# Altium footprint library FLATPACK-10 + MSOP-8.PcbLib: 1 footprints
Each footprint in its own frame and in the unit in brackets; x right, y up, seen from the top. Pads: shape width x height; smd on the part's side, far side on the other; paste and mask are expansions set on the pad; w line width, h text height; cw(c..) or ccw(c..) is an arc to the next point about the centre after c.
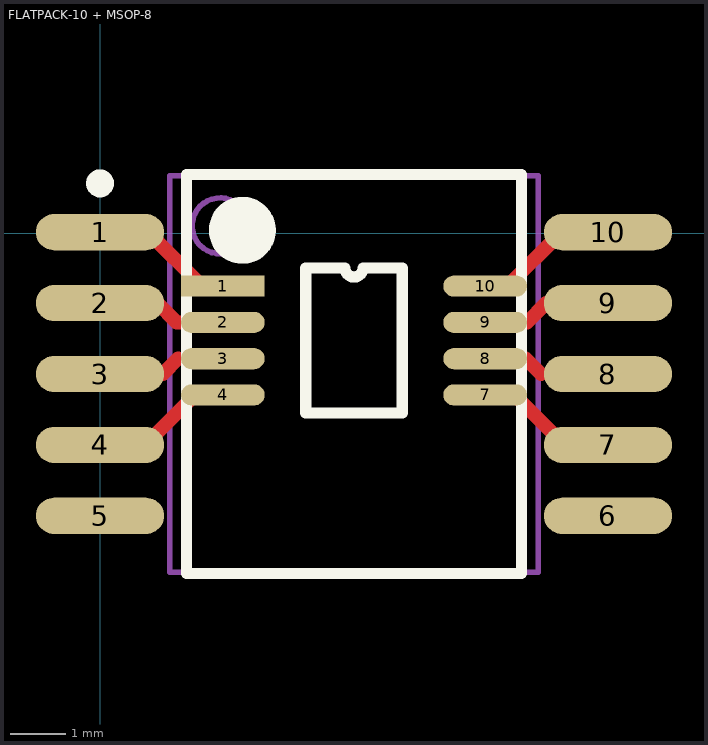
[diagram p0: the footprint, top view; thin cyan lines are the x and y axes]

## FLATPACK-10 + MSOP-8 [mm]
pads (18):
  oval 2.3x0.65 smd: 1(0,0.015) 2(0,-1.255) 3(0,-2.525) 4(0,-3.795) 5(0,-5.065) 6(9.1,-5.065) 7(9.1,-3.795) 8(9.1,-2.525) 9(9.1,-1.255) 10(9.1,0.015)
  rect 1.5x0.38 smd: 1(2.2,-0.95)
  oval 1.5x0.38 smd: 2(2.2,-1.6) 3(2.2,-2.25) 4(2.2,-2.9) 7(6.9,-2.9) 8(6.9,-2.25) 9(6.9,-1.6) 10(6.9,-0.95)
Top Layer:
  lines w0.254: 0,-3.795 0.805,-3.795 1.7,-2.9 ; 0,-2.525 1.125,-2.525 1.4,-2.25 ; 0,0.015 0.61,0.015 ; 0.86,0.015 1.825,-0.95 2.2,-0.95 ; 1.03,-1.255 1.375,-1.6 2.2,-1.6 ; 6.9,-2.25 7.625,-2.25 7.9,-2.525 ; 6.9,-1.6 7.65,-1.6 7.995,-1.255 ; 6.9,-0.95 7.3,-0.95 8.265,0.015 ; 7.425,-2.9 8.32,-3.795 9.1,-3.795
Top Overlay:
  circle w0.6: c2.55,0.05 r0.3
  circle w0.25: c0,0.89 r0.125
  lines w0.2: 1.55,-6.1 1.55,1.05 7.55,1.05 7.55,-6.1 1.55,-6.1 ; 3.685,-3.225 3.685,-0.625 4.388,-0.625 ccw(c4.55,-0.625) 4.713,-0.625 5.415,-0.625 5.415,-3.225 3.685,-3.225
Mechanical 13:
  circle w0.1: c2.15,0.13 r0.5
  lines w0.1: 1.25,-6.08 1.25,1.03 7.85,1.03 7.85,-6.08 1.25,-6.08
3D body "FLATPACK-10_.step": height 2.29, standoff 0, extent -0.74,-6.08 9.84,1.03
3D body: height 12, standoff 2, extent 4.4,-1.55 4.4,-1.55
3D body: height 12, standoff 2, extent 2.2,-0.95 2.2,-0.95